# Altium schematic symbol library INDUSTRIAL ELECTRICAL.SchLib: 50 symbols
Pins are listed as number, name and electrical type; pins without a type are passive.

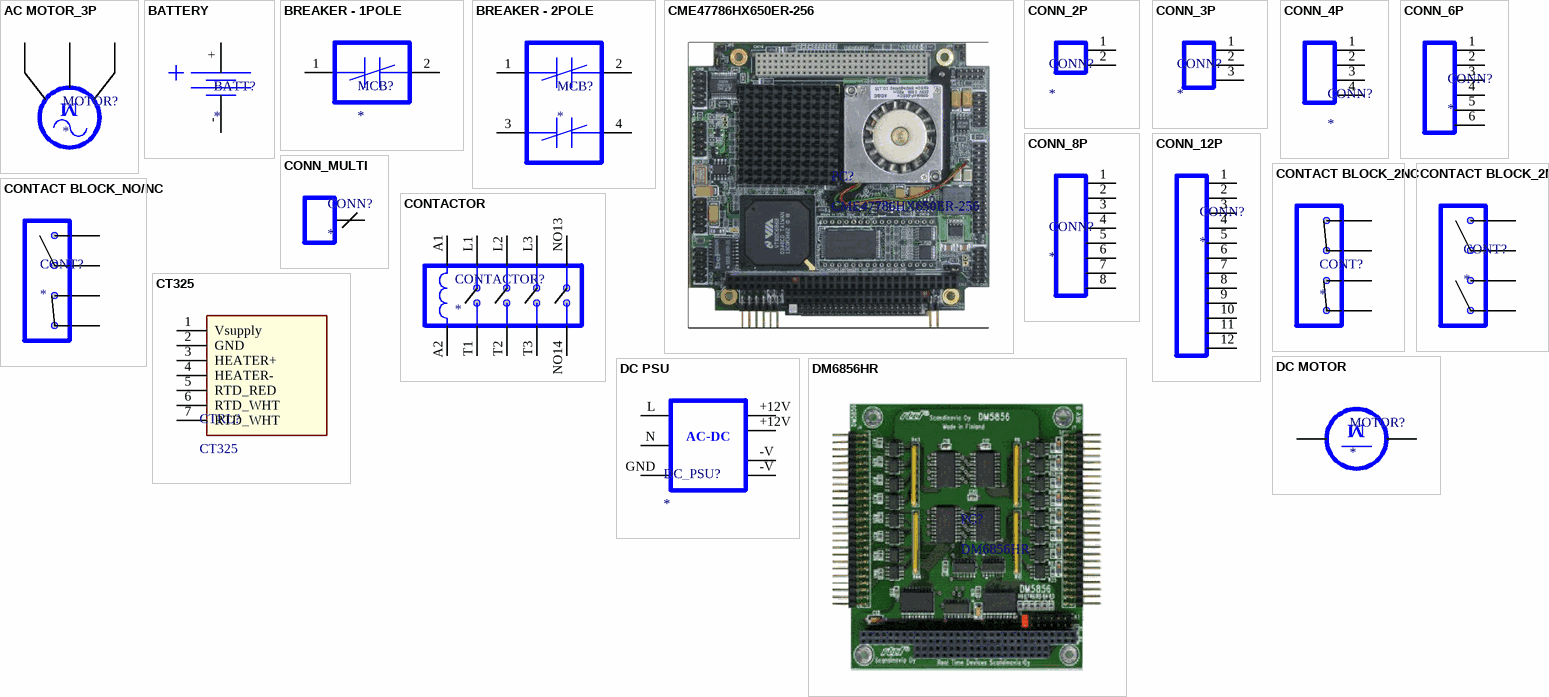
[diagram p0: symbols AC MOTOR_3P to DM6856HR]

## AC MOTOR_3P
designator MOTOR?
MFG: *; MFG PN: *
pins: ?1, ?2, ?3
text: M

## BATTERY
designator BATT?
MFG: *; MFG PN: *
pins: +, -

## BREAKER - 1POLE
designator MCB?
pins: 1, 2

## BREAKER - 2POLE
designator MCB?
MFG: *; MFG PN: *
pins: 1, 2, 3, 4

## CME47786HX650ER-256
designator PC?

## CONN_2P
designator CONN?
MFG: *; MFG PN: *
pins: 1, 2

## CONN_3P
designator CONN?
MFG: *; MFG PN: *
pins: 1, 2, 3

## CONN_4P
designator CONN?
MFG: *; MFG PN: *
pins: 1, 2, 3, 4

## CONN_6P
designator CONN?
MFG: *; MFG PN: *
pins: 1, 2, 3, 4, 5, 6

## CONN_8P
designator CONN?
MFG: *; MFG PN: *
pins: 1, 2, 3, 4, 5, 6, 7, 8

## CONN_12P
designator CONN?
MFG: *; MFG PN: *
pins: 1, 2, 3, 4, 5, 6, 7, 8, 9, 10, 11, 12

## CONN_MULTI
designator CONN?
MFG: *; MFG PN: *
pins: ?1

## CONTACT BLOCK_2NC
designator CONT?
MFG: *; MFG PN: *
pins: ?1, ?2, ?3, ?4

## CONTACT BLOCK_2NO
designator CONT?
MFG: *; MFG PN: *
pins: ?1, ?2, ?3, ?4

## CONTACT BLOCK_NO/NC
designator CONT?
MFG: *; MFG PN: *
pins: ?1, ?2, ?3, ?4

## CONTACTOR
designator CONTACTOR?
MFG: *; MFG PN: *
pins: A1, A2, L1, L2, L3, NO13, NO14, T1, T2, T3

## CT325
designator CTRL?
Temperature Controller; MFG: MINCO; MFG PN: CT325
pins: 1 Vsupply, 2 GND, 3 HEATER+, 4 HEATER-, 5 RTD_RED, 6 RTD_WHT, 7 RTD_WHT

## DC MOTOR
designator MOTOR?
MFG: *; MFG PN: *
pins: ?1, ?2
text: M

## DC PSU
designator DC_PSU?
MFG: *; MFG PN: *
pins: +12V, +12V, -V, -V, GND, L, N
text: AC-DC

## DM6856HR
designator PC?

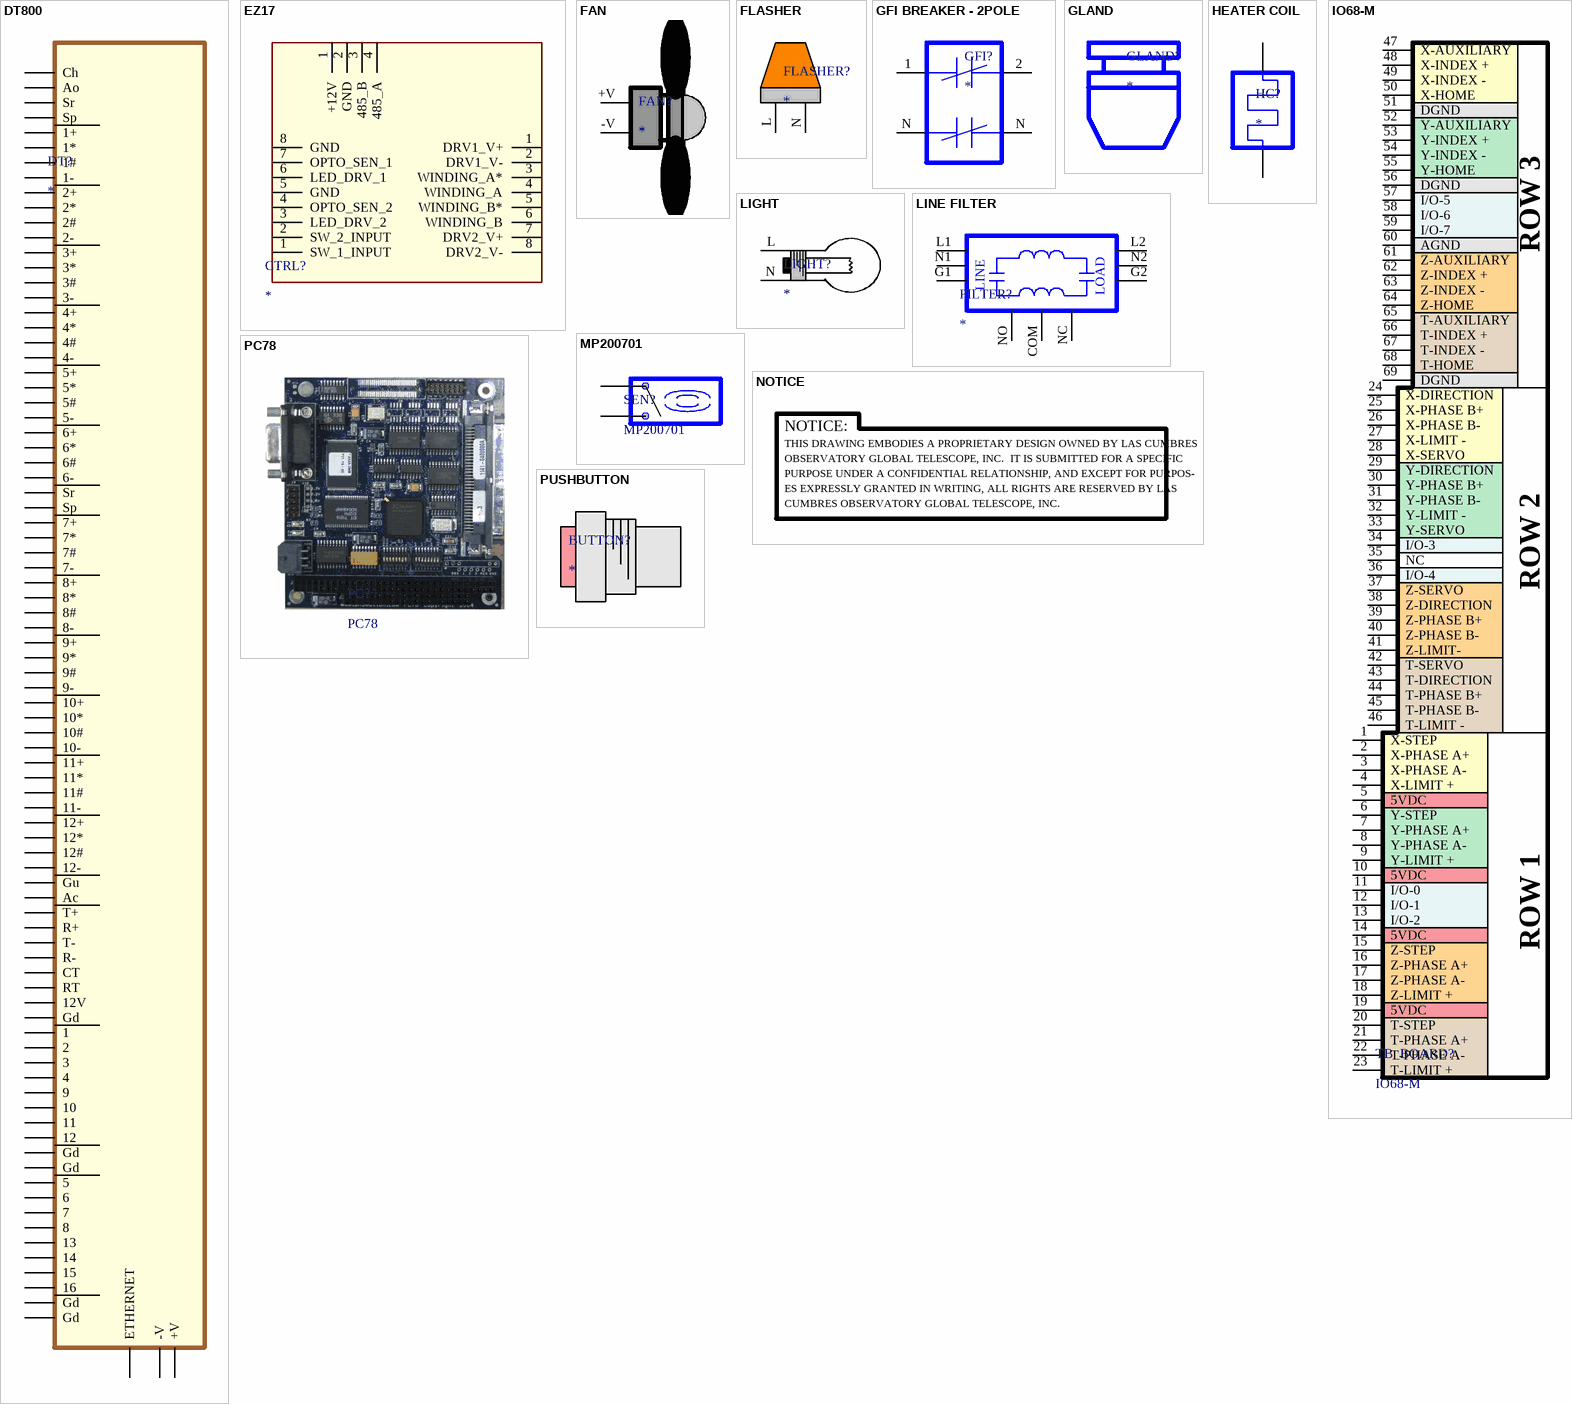
[diagram p1: symbols DT800 to PUSHBUTTON]

## DT800
designator DT?
pins: ?1 1+, ?2 1*, ?3 1#, ?4 1-, ?5 2+, ?6 2*, ?7 2#, ?8 2-, ?9 3+, ?10 3*, ?11 3#, ?12 3-, ?13 4+, ?14 4*, ?15 4#, ?16 4-, ?17 5+, ?18 5*, ?19 5#, ?20 5-, ?21 6+, ?22 6*, ?23 6#, ?24 6-, ?25 7+, ?26 7*, ?27 7#, ?28 7-, ?29 8+, ?30 8*, ?31 8#, ?32 8-, ?33 9+, ?34 9*, ?35 9#, ?36 9-, ?37 10+, ?38 10*, ?39 10#, ?40 10-, ?41 11+, ?42 11*, ?43 11#, ?44 11-, ?45 12+, ?46 12*, ?47 12#, ?48 12-, ?49 Ao, ?50 Ch, ?51 Sr, ?52 Sp, ?53 Sr, ?54 Sp, ?55 Gu, ?56 Ac, ?57 T+, ?58 R+, ?59 T-, ?60 R-, ?61 CT, ?62 RT, ?63 12V, ?64 Gd, ?65 1, ?66 2, ?67 3, ?68 4, ?69 9, ?70 10, ?71 11, ?72 12, ?73 Gd, ?74 Gd, ?75 5, ?76 6, ?77 7, ?78 8, ?79 13, ?80 14, ?81 15, ?82 16, ?83 Gd, ?84 Gd, ?85 ETHERNET, ?86 +V, ?87 -V

## EZ17
designator CTRL?
Stepper Motor Controller & Driver; MFG: ALL MOTION; MFG PN: EZ17
pins: 1 +12V, 1 SW_1_INPUT, 1 DRV1_V+, 2 GND, 2 SW_2_INPUT, 2 DRV1_V-, 3 485_B, 3 LED_DRV_2, 3 WINDING_A*, 4 485_A, 4 WINDING_A, 4 OPTO_SEN_2, 5 WINDING_B*, 5 GND, 6 WINDING_B, 6 LED_DRV_1, 7 DRV2_V+, 7 OPTO_SEN_1, 8 DRV2_V-, 8 GND

## FAN
designator FAN?
MFG: *; MFG PN: *
pins: +V, -V

## FLASHER
designator FLASHER?
MFG: *; MFG PN: *
pins: L, N

## GFI BREAKER - 2POLE
designator GFI?
MFG: *; MFG PN: *
pins: 1, 2, N, N

## GLAND
designator GLAND?

## HEATER COIL
designator HC?
MFG: *; MFG PN: *
pins: ?1, ?2

## IO68-M
designator TB_BOARD?
pins: 1 X-STEP, 2 X-PHASE A+, 3 X-PHASE A-, 4 X-LIMIT +, 5 5VDC, 6 Y-STEP, 7 Y-PHASE A+, 8 Y-PHASE A-, 9 Y-LIMIT +, 10 5VDC, 11 I/O-0, 12 I/O-1, 13 I/O-2, 14 5VDC, 15 Z-STEP, 16 Z-PHASE A+, 17 Z-PHASE A-, 18 Z-LIMIT +, 19 5VDC, 20 T-STEP, 21 T-PHASE A+, 22 T-PHASE A-, 23 T-LIMIT +, 24 X-DIRECTION, 25 X-PHASE B+, 26 X-PHASE B-, 27 X-LIMIT -, 28 X-SERVO, 29 Y-DIRECTION, 30 Y-PHASE B+, 31 Y-PHASE B-, 32 Y-LIMIT -, 33 Y-SERVO, 34 I/O-3, 35 NC, 36 I/O-4, 37 Z-SERVO, 38 Z-DIRECTION, 39 Z-PHASE B+, 40 Z-PHASE B-, 41 Z-LIMIT-, 42 T-SERVO, 43 T-DIRECTION, 44 T-PHASE B+, 45 T-PHASE B-, 46 T-LIMIT -, 47 X-AUXILIARY, 48 X-INDEX +, 49 X-INDEX -, 50 X-HOME, 51 DGND, 52 Y-AUXILIARY, 53 Y-INDEX +, 54 Y-INDEX -, 55 Y-HOME, 56 DGND, 57 I/O-5, 58 I/O-6, 59 I/O-7, 60 AGND, 61 Z-AUXILIARY, 62 Z-INDEX +, 63 Z-INDEX -, 64 Z-HOME, 65 T-AUXILIARY, 66 T-INDEX +, 67 T-INDEX -, 68 T-HOME, 69 DGND
text: ROW 3; ROW 2; ROW 1

## LIGHT
designator LIGHT?
MFG: *; MFG PN: *
pins: L, N

## LINE FILTER
designator FILTER?
MFG: *; MFG PN: *
pins: COM, G1, G2, L1, L2, N1, N2, NC, NO
text: LINE; LOAD

## MP200701
designator SEN?
Reed-based magnetic proximity sensor in aluminum threaded housing; MFG: CHERRY; MFG PN: MP200701
pins: ?1, ?2

## NOTICE
designator *  (value not drawn)
text: NOTICE:; THIS DRAWING EMBODIES A PROPRIETARY DESIGN OWNED BY LAS CUMBRES; OBSERVATORY GLOBAL TELESCOPE, INC.  IT IS SUBMITTED FOR A SPECIFIC; PURPOSE UNDER A CONFIDENTIAL RELATIONSHIP, AND EXCEPT FOR PURPOS-; ES EXPRESSLY GRANTED IN WRITING, ALL RIGHTS ARE RESERVED BY LAS; CUMBRES OBSERVATORY GLOBAL TELESCOPE, INC.

## PC78
designator PC?

## PUSHBUTTON
designator BUTTON?
MFG: *; MFG PN: *

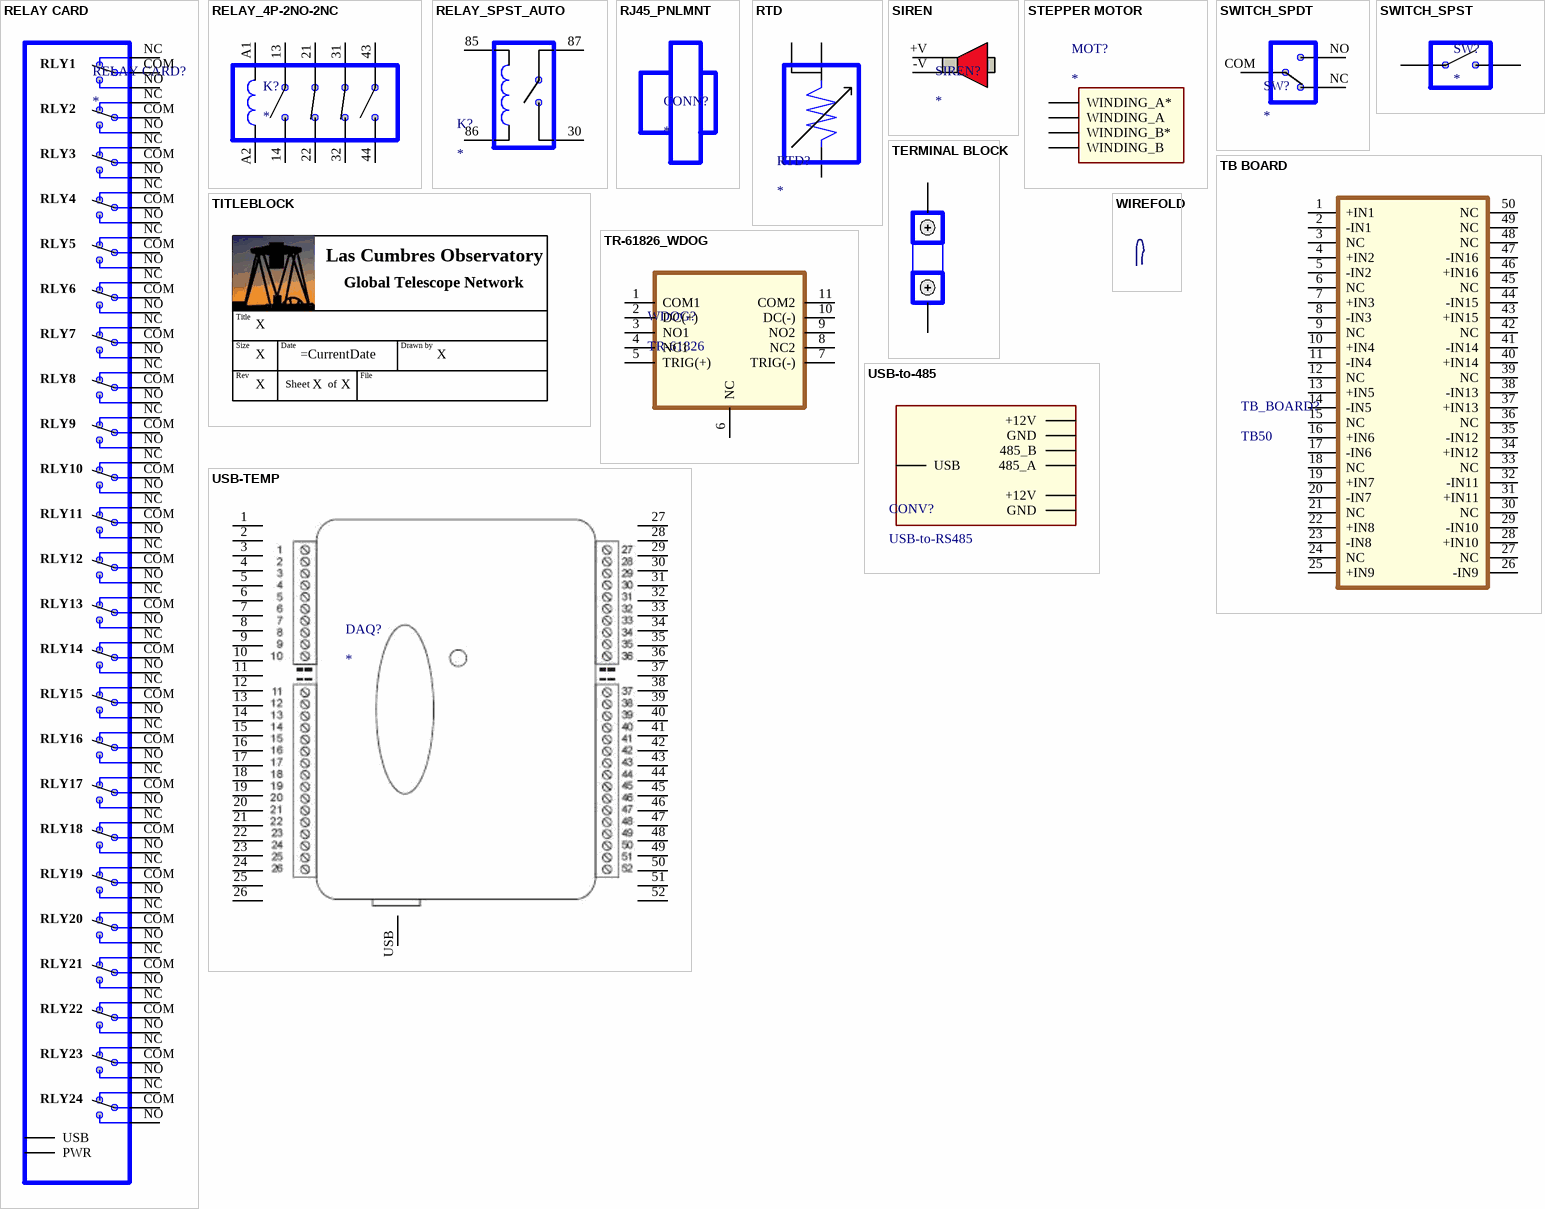
[diagram p2: symbols RELAY CARD to WIREFOLD]

## RELAY CARD
designator RELAY CARD?
MFG: *; MFG PN: *
pins: ?1 USB, ?2 PWR, COM, COM, COM, COM, COM, COM, COM, COM, COM, COM, COM, COM, COM, COM, COM, COM, COM, COM, COM, COM, COM, COM, COM, COM, NC, NC, NC, NC, NC, NC, NC, NC, NC, NC, NC, NC, NC, NC, NC, NC, NC, NC, NC, NC, NC, NC, NC, NC, NO, NO, NO, NO, NO, NO, NO, NO, NO, NO, NO, NO, NO, NO, NO, NO, NO, NO, NO, NO, NO, NO, NO, NO
text: RLY1; RLY2; RLY3; RLY4; RLY5; RLY6; RLY7; RLY8; RLY9; RLY10; RLY11; RLY12; RLY13; RLY14; RLY15; RLY16; RLY17; RLY18; RLY19; RLY20; RLY21; RLY22; RLY23; RLY24

## RELAY_4P-2NO-2NC
designator K?
MFG: *; MFG PN: *
pins: 13, 14, 21, 22, 31, 32, 43, 44, A1, A2

## RELAY_SPST_AUTO
designator K?
MFG: *; MFG PN: *
pins: 30 3, 85 0, 86 1, 87 2

## RJ45_PNLMNT
designator CONN?

## RTD
designator RTD?
MFG: *; MFG PN: *
pins: ?1, ?2, ?3

## SIREN
designator SIREN?
MFG: *; MFG PN: *
pins: +V, -V

## STEPPER MOTOR
designator MOT?
MFG: *; MFG PN: *
pins: 10 WINDING_A*, 11 WINDING_A, 12 WINDING_B*, 13 WINDING_B

## SWITCH_SPDT
designator SW?
MFG: *; MFG PN: *
pins: COM, NC, NO

## SWITCH_SPST
designator SW?
pins: COM, NO

## TB BOARD
designator TB_BOARD?, comment TB50
MFG: *; MFG PN: *
pins: 1 +IN1, 2 -IN1, 3 NC, 4 +IN2, 5 -IN2, 6 NC, 7 +IN3, 8 -IN3, 9 NC, 10 +IN4, 11 -IN4, 12 NC, 13 +IN5, 14 -IN5, 15 NC, 16 +IN6, 17 -IN6, 18 NC, 19 +IN7, 20 -IN7, 21 NC, 22 +IN8, 23 -IN8, 24 NC, 25 +IN9, 26 -IN9, 27 NC, 28 +IN10, 29 -IN10, 30 NC, 31 +IN11, 32 -IN11, 33 NC, 34 +IN12, 35 -IN12, 36 NC, 37 +IN13, 38 -IN13, 39 NC, 40 +IN14, 41 -IN14, 42 NC, 43 +IN15, 44 -IN15, 45 NC, 46 +IN16, 47 -IN16, 48 NC, 49 NC, 50 NC

## TERMINAL BLOCK
designator TERM?  (value not drawn)
MFG: *; MFG PN: *
pins: ?1, ?2

## TITLEBLOCK
designator TITLEBLOCK  DOCUMENT TITLE: X  (hidden comment: *)  (no BOM)
LCOGT Titleblock; SIZE: X; REV: X; DOCUMENT DATE: =CurrentDate; DRAWN: X; CURRENT PAGE: X; TOTAL PAGES: X
text: Las Cumbres Observatory; Global Telescope Network; Title; Size; Date; Drawn by; Rev; File; Sheet      of

## TR-61826_WDOG
designator WDOG?, comment TR-61826
pins: 1 COM1, 2 DC(+), 3 NO1, 4 NC1, 5 TRIG(+), 6 NC, 7 TRIG(-), 8 NC2, 9 NO2, 10 DC(-), 11 COM2

## USB-TEMP
designator DAQ?
MFG: *; MFG PN: *
pins: 1, 2, 3, 4, 5, 6, 7, 8, 9, 10, 11, 12, 13, 14, 15, 16, 17, 18, 19, 20, 21, 22, 23, 24, 25, 26, 27, 28, 29, 30, 31, 32, 33, 34, 35, 36, 37, 38, 39, 40, 41, 42, 43, 44, 45, 46, 47, 48, 49, 50, 51, 52, USB

## USB-to-485
designator CONV?, comment USB-to-RS485
USB to RS485 converter w/ ext. pwr bus; MFG: ALL MOTION; MFG PN: USB-to-RS485
pins: 14 +12V, 15 GND, 16 485_B, 17 485_A, 18 +12V, 19 GND, 21 USB

## WIREFOLD
designator *  (value not drawn)